# Altium schematic symbol library PAN1721.Schlib: 1 symbol
Pins are listed as number, name and electrical type; pins without a type are passive.

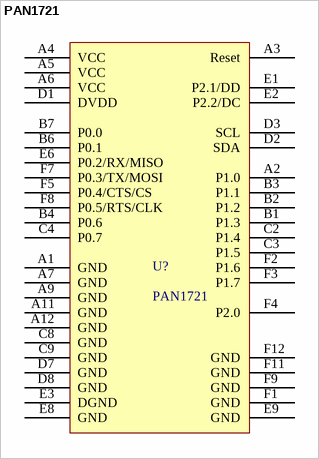
[diagram p0: symbol PAN1721]

## PAN1721
designator U?
Bluetooth 4.0 Module w/ Antenna
pins: A1 GND, A2 P1.0, A3 Reset, A4 VCC, A5 VCC, A6 VCC, A7 GND, A9 GND, A11 GND, A12 GND, B1 P1.3, B2 P1.2, B3 P1.1, B4 P0.6, B6 P0.1, B7 P0.0, C2 P1.4, C3 P1.5, C4 P0.7, C8 GND, C9 GND, D1 DVDD, D2 SDA, D3 SCL, D7 GND, D8 GND, E1 P2.1/DD, E2 P2.2/DC, E3 DGND, E6 P0.2/RX/MISO, E8 GND, E9 GND, F1 GND, F2 P1.6, F3 P1.7, F4 P2.0, F5 P0.4/CTS/CS, F7 P0.3/TX/MOSI, F8 P0.5/RTS/CLK, F9 GND, F11 GND, F12 GND